# EAGLE library part MC74HC164A-D (library 1dah)
8-bit shift register
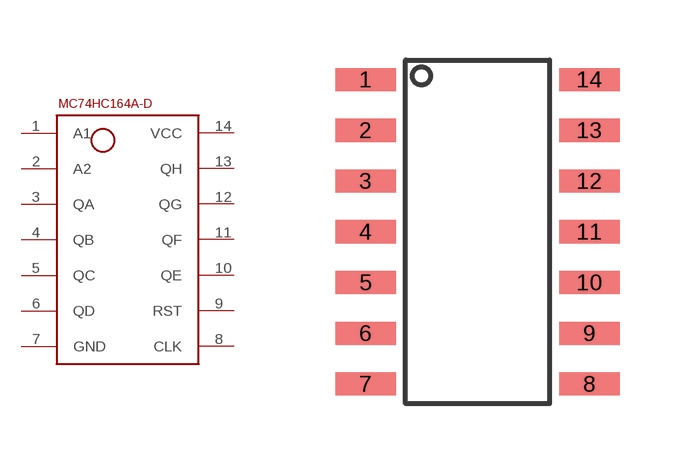
[diagram p8: symbol with the pads of SOIC14; footprint SOIC14]

Designator prefix -

## MC74HC164A-D  [SOIC14]
1  A1
2  A2
3  QA
4  QB
5  QC
6  QD
7  GND
8  CLK
9  RST
10  QE
11  QF
12  QG
13  QH
14  VCC

## Footprint SOIC14 (pad centres in mm)
smd 1.52 x 0.58: 1 -2.8,3.81; 2 -2.8,2.54; 3 -2.8,1.27; 4 -2.8,0; 5 -2.8,-1.27; 6 -2.8,-2.54; 7 -2.8,-3.81; 8 2.8,-3.81; 9 2.8,-2.54; 10 2.8,-1.27; 11 2.8,0; 12 2.8,1.27; 13 2.8,2.54; 14 2.8,3.81